# Altium footprint library IND.PcbLib: 9 footprints
Each footprint in its own frame and in the unit in brackets; x right, y up, seen from the top. Pads: shape width x height; smd on the part's side, far side on the other; paste and mask are expansions set on the pad; w line width, h text height; cw(c..) or ccw(c..) is an arc to the next point about the centre after c.
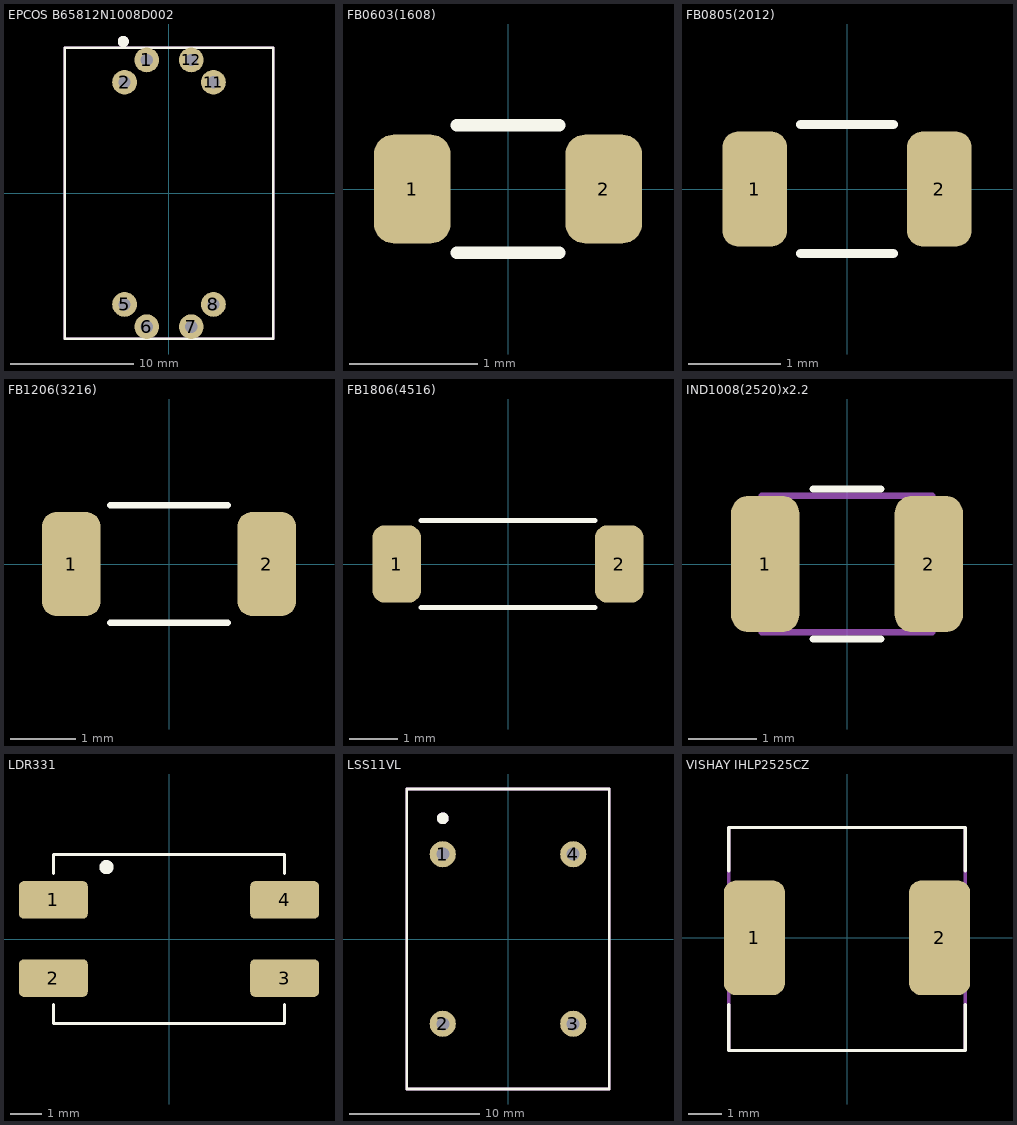
[diagram p0: the footprints below, top view; thin cyan lines are the x and y axes]

## EPCOS B65812N1008D002 [mm] "Common Mode SS Coil, RM8 series"
height 11.5
pads (8):
  round 2 hole 1: 1(-1.8,10.8) 2(-3.6,9) 5(-3.6,-9) 6(-1.8,-10.8) 7(1.8,-10.8) 8(3.6,-9) 11(3.6,9) 12(1.8,10.8)
Top Overlay:
  circle w0.5: c-3.7,12.3 r0.2
  lines w0.2: -8.45,-11.776 8.45,-11.776 8.45,11.776 -8.45,11.776 -8.45,-11.776
Top Assembly:
  circle w0.5: c-3.7,12.3 r0.2
  lines w0.2: -8.45,-11.776 8.45,-11.776 8.45,11.776 -8.45,11.776 -8.45,-11.776
3D body "RM8_1.STEP": height 11.7, standoff -5.3, extent -8.45,-11.776 8.45,11.776

## FB0603(1608) [mm]
height 0.8
pads (2):
  rrect50% 0.6x0.85 smd: 1(-0.75,0) 2(0.75,0)
Top Overlay:
  lines w0.1: -0.4,-0.5 0.4,-0.5 ; -0.4,0.5 0.4,0.5
3D body "FB 0603.STEP": height 0.8, standoff 0, extent -0.8,-0.4 0.8,0.4

## FB0805(2012) [mm]
height 0.65
pads (2):
  rrect50% 0.7x1.25 smd: 1(-1,0) 2(1,0)
Top Overlay:
  lines w0.1: -0.5,-0.7 0.5,-0.7 ; -0.5,0.7 0.5,0.7
3D body "FB 0805.STEP": height 0.85, standoff 0, extent -1,-0.625 1,0.625

## FB1206(3216) [mm]
height 0.85
pads (2):
  rrect50% 0.9x1.6 smd mask+0.102: 1(-1.5,0) 2(1.5,0)
Top Overlay:
  lines w0.1: -0.9,-0.9 0.9,-0.9 ; -0.9,0.9 0.9,0.9
3D body "FB 1206.STEP": height 1.11, standoff 0, extent -1.6,-0.8 1.6,0.8

## FB1806(4516) [mm]
height 1.6
pads (2):
  rrect50% 1x1.6 smd: 1(-2.3,0) 2(2.3,0)
Top Overlay:
  lines w0.1: -1.8,-0.9 1.8,-0.9 ; -1.8,0.9 1.8,0.9
3D body "FB 1806.STEP": height 1.61, standoff 0, extent -2.25,-0.8 2.25,0.8

## IND1008(2520)x2.2 [mm] "Inductor Power Shielded Multi-Layer"
height 2.2
pads (2):
  rrect50% 1x2 smd: 1(-1.2,0) 2(1.2,0)
Top Overlay:
  lines w0.1: -0.5,-1.1 0.5,-1.1 ; -0.5,1.1 0.5,1.1
Top Assembly:
  lines w0.1: -1.25,-1 1.25,-1 1.25,1 -1.25,1 -1.25,-1 ; -1.25,-1 -1.25,-1
3D body "INDC2520X220N EIA 1008.step": height 2.2, standoff 0, extent -1.25,-1 1.25,1

## LDR331 [mm] "9x5.4x4.7mm"
height 4.7
pads (4):
  rrect25% 2.2x1.2 smd: 1(-3.7,1.25) 2(-3.7,-1.25) 3(3.7,-1.25) 4(3.7,1.25)
Top Overlay:
  circle w0.254: c-2,2.3 r0.1
  lines w0.1: -3.7,-2.1 -3.7,-2.7 3.7,-2.7 3.7,-2.1 ; -3.7,2.1 -3.7,2.7 3.7,2.7 3.7,2.1
3D body "dr331.stp": height 5.05, standoff 0.05, extent -4.5,-2.7 4.5,2.7

## LSS11VL [mm] "Common Mode SS Coils, 11VL Series"
height 19.5
pads (4):
  round 2 hole 1: 1(-5,6.5) 2(-5,-6.5) 3(5,-6.5) 4(5,6.5)
Top Overlay:
  circle w0.5: c-5,9.25 r0.2
  lines w0.2: -7.75,-11.5 -7.75,11.5 7.75,11.5 7.75,-11.5 -7.75,-11.5
Top Assembly:
  circle w0.5: c-5,9.25 r0.2
  lines w0.2: -7.75,-11.5 -7.75,11.5 7.75,11.5 7.75,-11.5 -7.75,-11.5
3D body "ss11vl-05230.stp": height 20.6, standoff -3.4, extent -7.75,-11.501 7.75,11.5

## VISHAY IHLP2525CZ [mm] "Inductor High Current Shielded Wirewound"
height 3
pads (2):
  rrect40% 1.83x3.43 smd: 1(-2.77,0) 2(2.77,0)
Top Overlay:
  lines w0.1: -3.538,-2.004 -3.538,-3.37 3.538,-3.37 3.538,-2.004 ; -3.538,2.002 -3.538,3.3 3.538,3.3 3.538,2.002
Top 3D Body:
  lines w0.1: -3.538,-3.37 -3.538,3.3 3.538,3.3 3.538,-3.37 -3.538,-3.37
3D body "IHLP2525CZ.STEP": height 2.89, standoff 0, extent -3.538,-3.37 3.538,3.3